# Altium footprint library JST SM08B-SURS-TF.PCBLIB: 1 footprints
Each footprint in its own frame and in the unit in brackets; x right, y up, seen from the top. Pads: shape width x height; smd on the part's side, far side on the other; paste and mask are expansions set on the pad; w line width, h text height; cw(c..) or ccw(c..) is an arc to the next point about the centre after c.
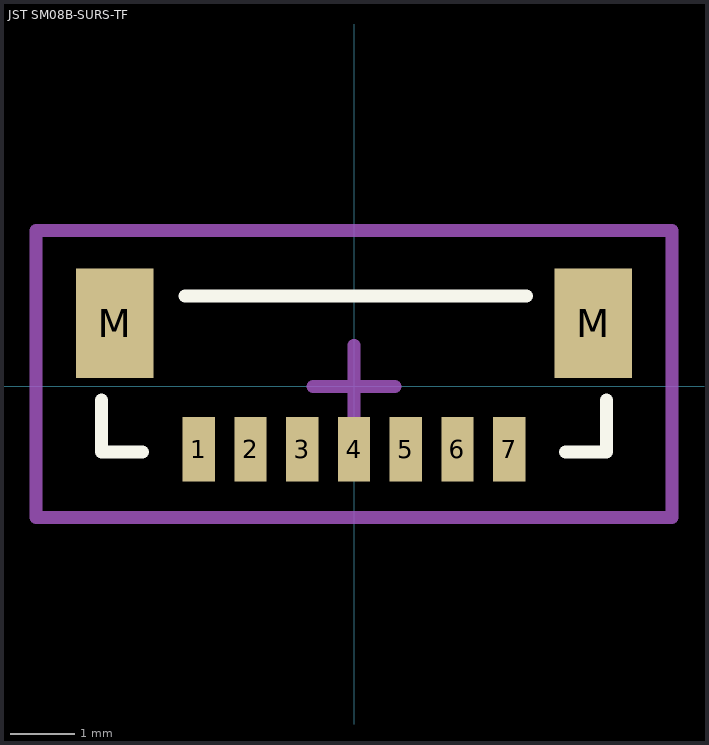
[diagram p0: the footprint, top view; thin cyan lines are the x and y axes]

## JST SM08B-SURS-TF [mm] "1.0mm pitch/Disconnectable Crimp style connector"
height 2.95
pads (9):
  rect 0.5x1 smd: 1(-2.4,-0.975) 2(-1.6,-0.975) 3(-0.8,-0.975) 4(0,-0.975) 5(0.8,-0.975) 6(1.6,-0.975) 7(2.4,-0.975)
  rect 1.2x1.7 smd: M(-3.7,0.975) M(3.7,0.975)
Top Overlay:
  lines w0.2: -3.905,-0.213 -3.905,-1.016 -3.27,-1.016 ; -2.616,1.397 2.667,1.397 ; 3.27,-1.016 3.905,-1.016 3.905,-0.213
Mechanical 15:
  lines w0.2: -0.635,0 0.635,0 ; 0,-0.635 0,0.635 ; -4.921,-2.032 -4.921,2.413 4.921,2.413 4.921,-2.032 -4.921,-2.032
3D body "JST SM08B-SURS-TF.STEP": height 1.75, standoff 0, extent -4.3,-1.303 4.3,1.397